# Altium schematic symbol library Trans_Diodes_2N7002-7-F_eec.SchLib: 1 symbol
Pins are listed as number, name and electrical type; pins without a type are passive.

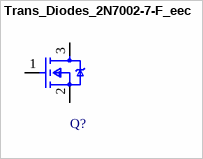
[diagram p0: symbol Trans_Diodes_2N7002-7-F_eec]

## Trans_Diodes_2N7002-7-F_eec
designator Q?
TRANS MOSFET N-CH 60V 115MA SOT23-3; Part Number: 2N7002-7-F; Manufacturer: Diodes; Category 9E07530Daf1645C0: Semiconductors and Actives; Category E7B12Abbd6523C76: MOSFETs; Category 2F8Ae2801E7Ef44D: Uncategorized; min_breakdown_voltage_gate_to_source: -20 V; Category 3B27F62D0A3Ae0E0: Discretes (diodes, transistors, thyristors ...); power_dissipation: 300 mW; Category Aa6D67679B8D71Aa: N Channel MOSFET; polarity: N-Channel; breakdown_voltage_drain_to_source: 70 V; max_breakdown_voltage_gate_to_source: 20 V; rds_drain_to_source_resistance_on: 4.4 Ω; Category D77D1A77E69F0Cba: Transistors; Num Pins: 3; helpURL: https://upverter.com/upn/revision/25d808f54d4a1cce/; ComponentLink2Description: Datasheet; Temperature: -55°C to +150°C; Package: SOT-23; Supplier 2: Mouser; Price: 0.0714567392161; Supplier 1: Digi-Key; ComponentLink1URL: https://upverter.com/upn/revision/25d808f54d4a1cce/; Supplier Part Number 2: 621-2N7002-F; Supplier Part Number 1: 2N7002-FDICT-ND; ComponentLink1Description: Upverter; ComponentLink2URL: https://upverter.com/datasheet/64901800f65d029d74a1b11cf5c344e3d7ff58ae.pdf; RoHS: TRUE; Mouser Part Number: 621-2N7002-F; voltage_rating_dc: 60 V; Ipc Land Pattern Name: SOT92P240X120-3; Category 6F04A20E5Eeab4C3: Uncategorized; Temperature Range High: +150°C; Digikey Description: TRANS MOSFET N-CH 60V 115MA SOT23-3; Digikey Part Number: 2N7002-FDICT-ND; Lead Free: yes; vds_drain_to_source_voltage: 60 V; Category 931F5E15A77D48D8: Uncategorized; Temperature Range Low: -55°C; id_continuous_drain_current: 115 mA; Mounting Type: surface mount; current_rating: 115 mA; Octopart Part Number: e39a2a95da213c5d
footprint Diodes_2N7002-7-F_0
pins: 1 Gate, 2 Source, 3 Drain